# EAGLE library part MHZ14 (library TGS822)
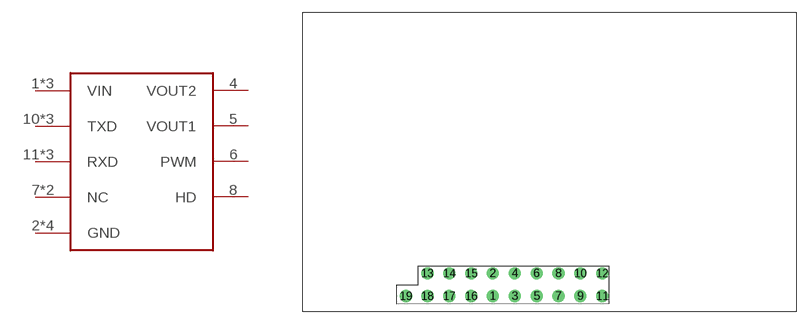
[diagram p0: symbol with the pads of MH-Z14; footprint MH-Z14]

Designator prefix -

## MHZ14  [MH-Z14]
1  VIN
2  GND
3  GND
4  VOUT2
5  VOUT1
6  PWM
7  NC
8  HD
9  NC
10  TXD
11  RXD
12  GND
13  TXD
14  RXD
15  VIN
16  GND
17  VIN
18  RXD
19  TXD

## Footprint MH-Z14 (pad centres in mm)
drill 0.9: 1 -6.6,-15.5; 2 -6.6,-12.85; 3 -4.05,-15.5; 4 -4.05,-12.85; 5 -1.5,-15.5; 6 -1.5,-12.85; 7 1.05,-15.5; 8 1.05,-12.85; 9 3.6,-15.5; 10 3.6,-12.85; 11 6.15,-15.5; 12 6.15,-12.85; 13 -14.2,-12.85; 14 -11.65,-12.85; 15 -9.1,-12.85; 16 -9.1,-15.5; 17 -11.65,-15.5; 18 -14.2,-15.5; 19 -16.7,-15.5